# EAGLE library part TPS2010A (library Mine)
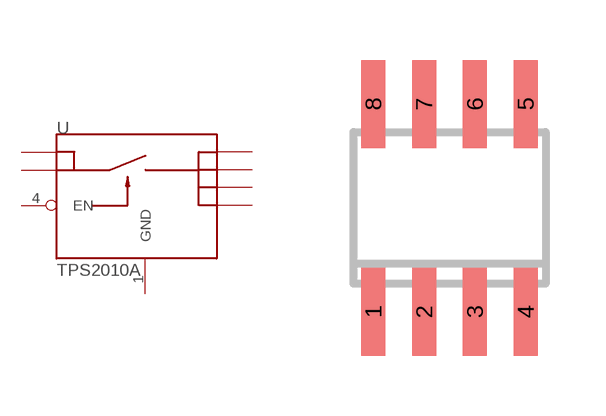
[diagram p41: symbol with the pads of SO-08; footprint SO-08]

Designator prefix -

## TPS2010A  [SO-08]
1  GND  sup
2  IN1  in
3  IN2  in
4  EN  in
5  OUT1  out
6  OUT2  out
7  OUT3  out
8  OUT4  out

## Footprint SO-08 (pad centres in mm)
D (R-PDSO-G8) Plastic Small Outline Package Source: http://focus.ti.com/lit/ds/symlink/sn65als176.pdf
smd 0.6 x 2.2: 1 -1.905,-2.6; 2 -0.635,-2.6; 3 0.635,-2.6; 4 1.905,-2.6; 5 1.905,2.6; 6 0.635,2.6; 7 -0.635,2.6; 8 -1.905,2.6